# Altium schematic symbol library capacitor_dblib.SchLib: 1 symbol
Pins are listed as number, name and electrical type; pins without a type are passive.

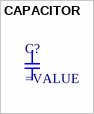
[diagram p0: symbol CAPACITOR]

## CAPACITOR
designator C?
CAP MLCC SMT
pins: 1, 2